# Altium footprint library LGA-14(2.5X3.0).PcbLib: 1 footprints
Each footprint in its own frame and in the unit in brackets; x right, y up, seen from the top. Pads: shape width x height; smd on the part's side, far side on the other; paste and mask are expansions set on the pad; w line width, h text height; cw(c..) or ccw(c..) is an arc to the next point about the centre after c.
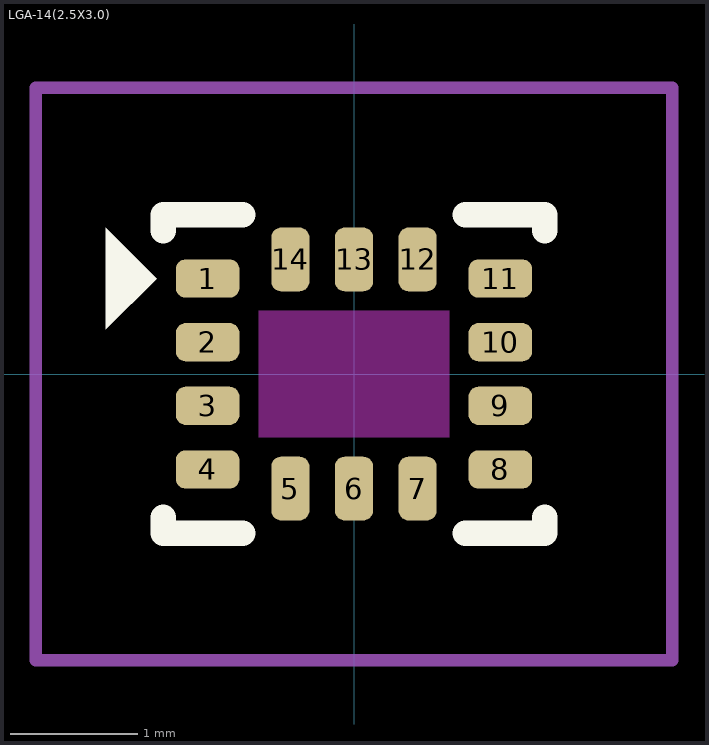
[diagram p0: the footprint, top view; thin cyan lines are the x and y axes]

## LGA-14(2.5X3.0) [mm]
pads (14):
  rrect50% 0.5x0.3 smd: 1(-1.15,0.75) 2(-1.15,0.25) 3(-1.15,-0.25) 4(-1.15,-0.75) 8(1.15,-0.75) 9(1.15,-0.25) 10(1.15,0.25) 11(1.15,0.75)
  rrect50% 0.3x0.5 smd: 5(-0.5,-0.9) 6(0,-0.9) 7(0.5,-0.9) 12(0.5,0.9) 13(0,0.9) 14(-0.5,0.9)
Top Layer keep-out:
  rectangle: -0.75,-0.5 0.75,0.5
Top Overlay:
  region: -1.95,0.35 -1.95,1.15 -1.55,0.75
  lines w0.2: -1.5,-1.125 -1.5,-1.25 -0.875,-1.25 ; -1.5,1.125 -1.5,1.25 -0.875,1.25 ; 0.875,-1.25 1.5,-1.25 1.5,-1.125 ; 0.875,1.25 1.5,1.25 1.5,1.125
Top Courtyard:
  lines w0.1: -2.5,-2.25 -2.5,2.25 2.5,2.25 2.5,-2.25 -1.5,-2.25 -2.5,-2.25
3D body "ICM-42688-P--3DModel-STEP-1.STEP": height 0.97, standoff 0, extent -1.5,-1.25 1.5,1.25